# EAGLE library part IC74HC00 (library chuong)
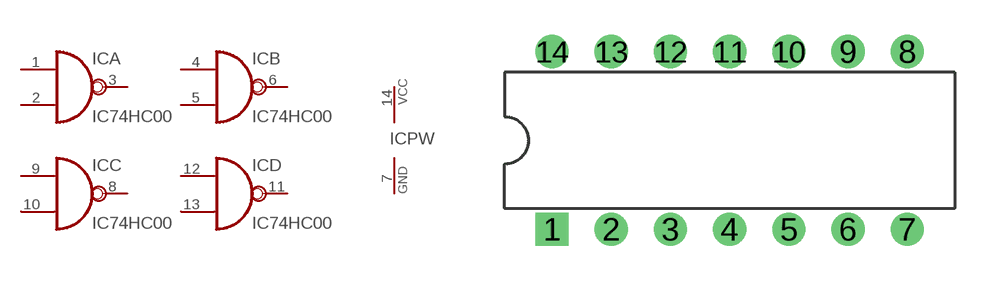
[diagram p43: symbol with the pads of DIL-14; footprint DIL-14]

Designator prefix IC; gates A=IC74HC00 B=IC74HC00 C=IC74HC00 D=IC74HC00 PW=POWER

## IC74HC00  [DIL-14]
1  A:I0  in
2  A:I1  in
3  A:O1  out
4  B:I0  in
5  B:I1  in
6  B:O1  out
7  PW:GND  pwr
8  C:O1  out
9  C:I0  in
10  C:I1  in
11  D:O1  out
12  D:I0  in
13  D:I1  in
14  PW:VCC  pwr

## Footprint DIL-14 (pad centres in mm)
drill 0.61 pad 1.422 square: 1 -7.62,-3.81
drill 0.61 pad 1.422 round: 2 -5.08,-3.81; 3 -2.54,-3.81; 4 0,-3.81; 5 2.54,-3.81; 6 5.08,-3.81; 7 7.62,-3.81; 8 7.62,3.81; 9 5.08,3.81; 10 2.54,3.81; 11 0,3.81; 12 -2.54,3.81; 13 -5.08,3.81; 14 -7.62,3.81